# Altium schematic symbol library CAP 2.2uF 35V.Schlib: 1 symbol
Pins are listed as number, name and electrical type; pins without a type are passive.

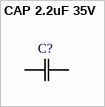
[diagram p0: symbol CAP 2.2uF 35V]

## CAP 2.2uF 35V
designator C?
CAP CER 2.2UF 35V X7R 0603/0805
pins: 1 C1, 2 C2